# Altium schematic symbol library SCH - ADC - AD AD9613.SCHLIB: 1 symbol
Pins are listed as number, name and electrical type; pins without a type are passive.

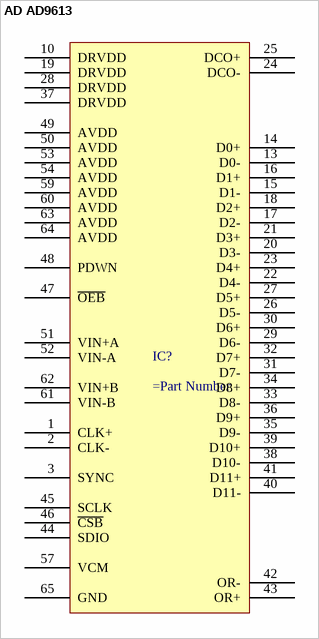
[diagram p0: symbol AD AD9613]

## AD AD9613
designator IC?
pins: 1 CLK+, 2 CLK-, 3 SYNC, 10 DRVDD, 13 D0-, 14 D0+, 15 D1-, 16 D1+, 17 D2-, 18 D2+, 19 DRVDD, 20 D3-, 21 D3+, 22 D4-, 23 D4+, 24 DCO-, 25 DCO+, 26 D5-, 27 D5+, 28 DRVDD, 29 D6-, 30 D6+, 31 D7-, 32 D7+, 33 D8-, 34 D8+, 35 D9-, 36 D9+, 37 DRVDD, 38 D10-, 39 D10+, 40 D11-, 41 D11+, 42 OR-, 43 OR+, 44 SDIO, 45 SCLK, 46 ~{CSB}, 47 ~{OEB}, 48 PDWN, 49 AVDD, 50 AVDD, 51 VIN+A, 52 VIN-A, 53 AVDD, 54 AVDD, 57 VCM, 59 AVDD, 60 AVDD, 61 VIN-B, 62 VIN+B, 63 AVDD, 64 AVDD, 65 GND